# Altium footprint library VESA-ESP_PCB_LIB.PcbLib: 17 footprints (part 1 of 2)
Each footprint in its own frame and in the unit in brackets; x right, y up, seen from the top. Pads: shape width x height; smd on the part's side, far side on the other; paste and mask are expansions set on the pad; w line width, h text height; cw(c..) or ccw(c..) is an arc to the next point about the centre after c.
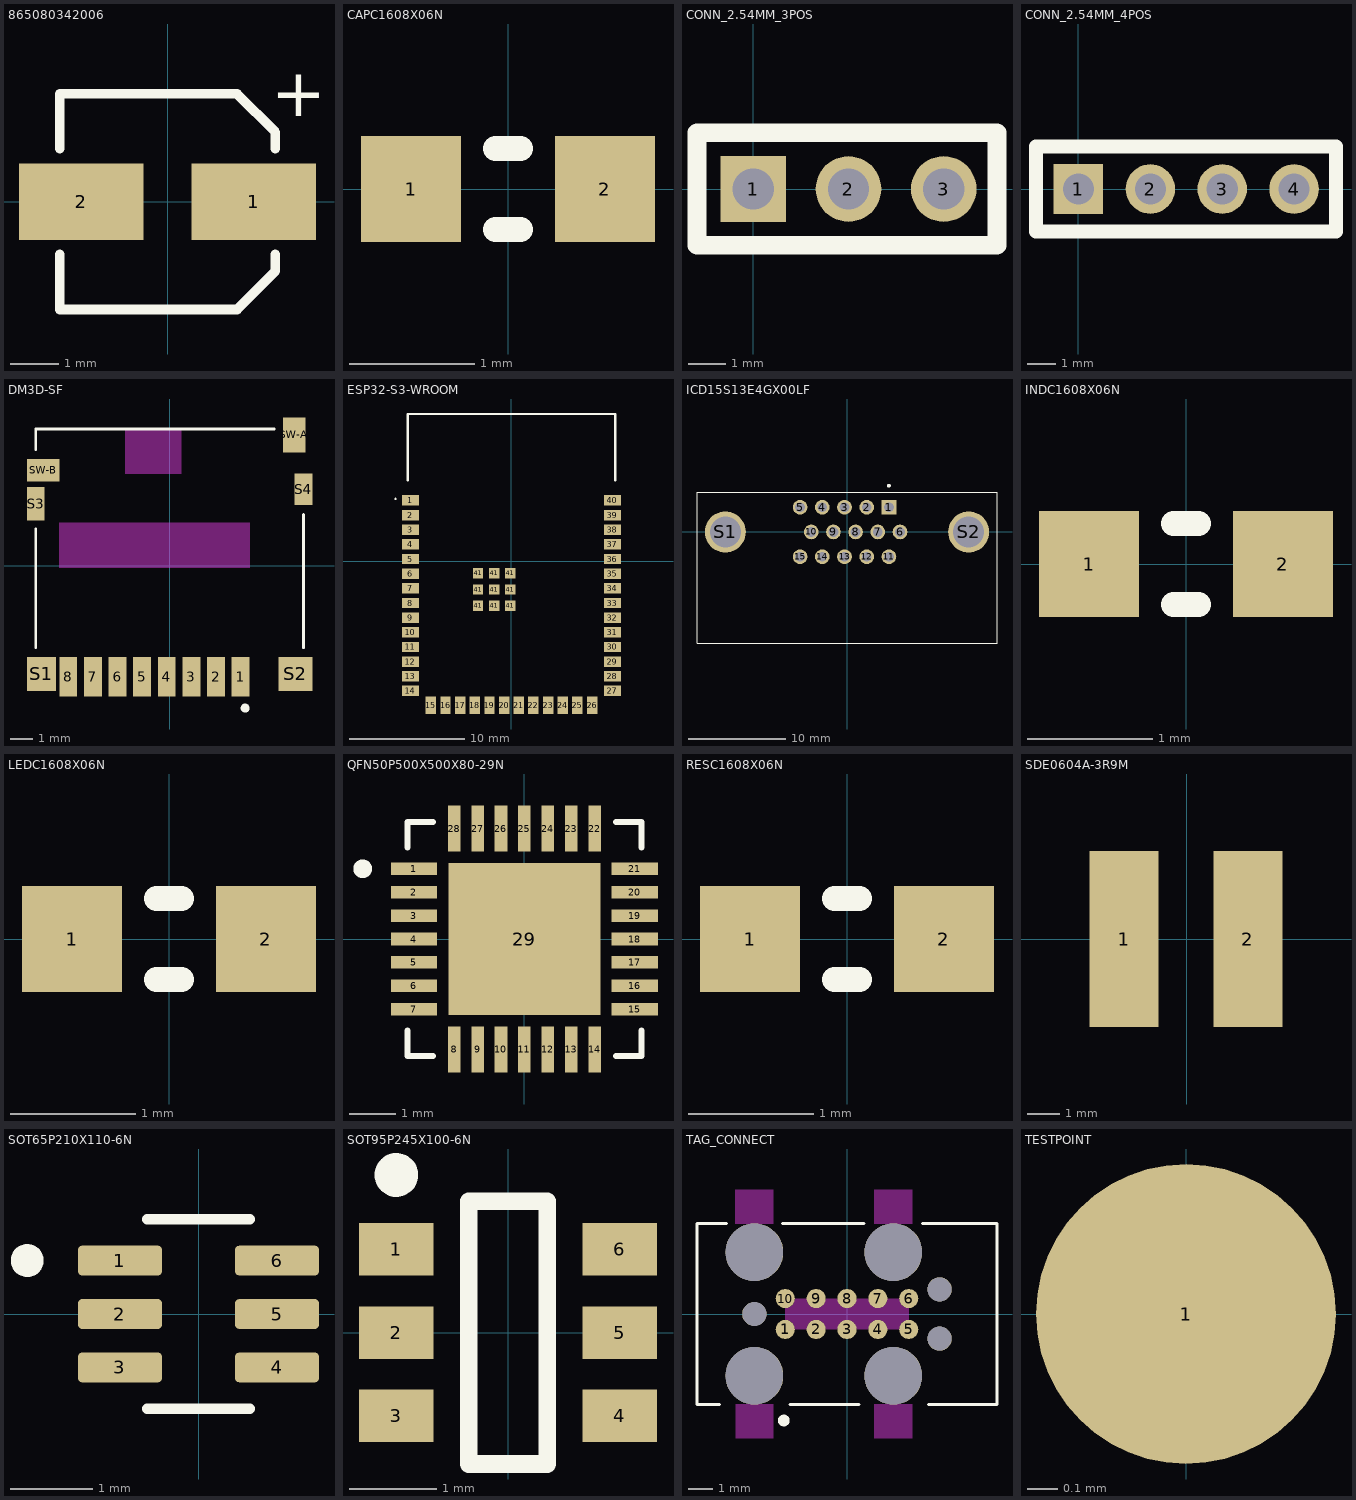
[diagram p0: the footprints below, top view; thin cyan lines are the x and y axes]

## 865080342006 [mm]
pads (2):
  rect 2.6x1.6 smd: 1(1.8,0) 2(-1.8,0)
Top Overlay:
  lines w0.2: -2.25,-1.1 -2.25,-2.25 1.45,-2.25 2.25,-1.45 2.25,-1.1 ; -2.25,1.1 -2.25,2.25 1.45,2.25 2.25,1.45 2.25,1.1
  text "+" at 2.159,1.778 h1
3D body "4x5.5x1.stp": height 5.5, standoff 0, extent -2.5,-2.15 2.5,2.15

## CAPC1608X06N [mm] "Chip Capacitor, 2-Leads, Body 1.60x0.80mm, IPC Medium Density"
height 0.6
pads (2):
  rect 0.8x0.85 smd: 1(-0.775,0) 2(0.775,0)
Top Overlay:
  lines w0.2: -0.1,-0.325 0.1,-0.325 ; -0.1,0.325 0.1,0.325
3D body: height 0.6, standoff 0, extent -0.4,-0.4 0.4,0.4
3D body: height 0.6, standoff 0, extent -0.8,-0.4 -0.4,0.4
3D body: height 0.6, standoff 0, extent 0.4,-0.4 0.8,0.4

## CONN_2.54MM_3POS [mm]
height 0.6
pads (3):
  rect 1.75x1.75 hole 1.1: 1(0,0)
  round 1.75 hole 1.1: 2(2.54,0) 3(5.08,0)
Top Overlay:
  lines w0.5: -1.5,-1.5 -1.5,1.5 6.5,1.5 6.5,-1.5 -1.5,-1.5

## CONN_2.54MM_4POS [mm]
height 0.6
pads (4):
  rect 1.75x1.75 hole 1.1: 1(0,0)
  round 1.75 hole 1.1: 2(2.54,0) 3(5.08,0) 4(7.62,0)
Top Overlay:
  lines w0.5: -1.5,-1.5 -1.5,1.5 9.1,1.5 9.1,-1.5 -1.5,-1.5

## DM3D-SF [mm]
pads (14):
  rect 0.8x1.75 smd: 1(3.173,-4.953) 2(2.073,-4.953) 3(0.973,-4.953) 4(-0.127,-4.953) 5(-1.227,-4.953) 6(-2.327,-4.953) 7(-3.427,-4.953) 8(-4.527,-4.953)
  rect 1.3x1.5 smd: S1(-5.727,-4.828)
  rect 1.5x1.5 smd: S2(5.623,-4.828)
  rect 0.8x1.5 smd: S3(-5.977,2.772)
  rect 0.8x1.4 smd: S4(5.973,3.422)
  rect 1x1.55 smd: SW-A(5.573,5.847)
  rect 1.45x1 smd: SW-B(-5.652,4.272)
Top Overlay:
  circle w0.2: c3.373,-6.353 r0.1
  lines w0.127: -5.977,-3.653 -5.977,1.647 ; -5.977,5.197 -5.977,6.122 4.673,6.122 ; 5.973,-3.653 5.973,2.297
Keep-Out Layer:
  region: 0.523,4.122 -1.977,4.122 -1.977,6.122 0.523,6.122
  region: 3.573,-0.078 -4.927,-0.078 -4.927,1.922 3.573,1.922
3D body "DM3D-SF.step": height 1.56, standoff 0.01, extent -5.975,-5.344 5.975,6.106

## ESP32-S3-WROOM [mm]
pads (49):
  rect 1.5x0.9 smd: 1(-8.75,5.26) 2(-8.75,3.99) 3(-8.75,2.72) 4(-8.75,1.45) 5(-8.75,0.18) 6(-8.75,-1.09) 7(-8.75,-2.36) 8(-8.75,-3.63) 9(-8.75,-4.9) 10(-8.75,-6.17) 11(-8.75,-7.44) 12(-8.75,-8.71) 13(-8.75,-9.98) 14(-8.75,-11.25) 27(8.75,-11.25) 28(8.75,-9.98) 29(8.75,-8.71) 30(8.75,-7.44) 31(8.75,-6.17) 32(8.75,-4.9) 33(8.75,-3.63) 34(8.75,-2.36) 35(8.75,-1.09) 36(8.75,0.18) 37(8.75,1.45) 38(8.75,2.72) 39(8.75,3.99) 40(8.75,5.26)
  rect 0.9x1.5 smd: 15(-6.985,-12.5) 16(-5.715,-12.5) 17(-4.445,-12.5) 18(-3.175,-12.5) 19(-1.905,-12.5) 20(-0.635,-12.5) 21(0.635,-12.5) 22(1.905,-12.5) 23(3.175,-12.5) 24(4.445,-12.5) 25(5.715,-12.5) 26(6.985,-12.5)
  rect 0.9x0.9 smd: 41(-2.9,-3.86) 41(-2.9,-2.46) 41(-2.9,-1.06) 41(-1.5,-3.86) 41(-1.5,-2.46) 41(-1.5,-1.06) 41(-0.1,-3.86) 41(-0.1,-2.46) 41(-0.1,-1.06)
Top Overlay:
  lines w0.1: -10.1,5.4 cw(c-10.05,5.4) -10,5.4 cw(c-10.05,5.4) -10.1,5.4
  lines w0.2: -9,7 -9,12.75 9,12.75 9,7
3D body "step_temp.STEP": height 3.25, standoff 0, extent -9,-12.75 9,12.75

## ICD15S13E4GX00LF [mm]
pads (17):
  rect 1.508x1.508 hole 1: 1(4.305,2.54)
  round 1.508 hole 1: 2(2.025,2.54) 3(-0.255,2.54) 4(-2.535,2.54) 5(-4.815,2.54) 6(5.445,0) 7(3.165,0) 8(0.885,0) 9(-1.395,0) 10(-3.675,0) 11(4.305,-2.54) 12(2.025,-2.54) 13(-0.255,-2.54) 14(-2.535,-2.54) 15(-4.815,-2.54)
  round 4.216 hole 3.2: S1(-12.495,0) S2(12.495,0)
Top Overlay:
  circle w0.2: c4.305,4.75 r0.1
  lines w0.127: -15.405,-11.43 -15.405,4.1 15.405,4.1 15.405,-11.43 -15.405,-11.43
3D body "step_temp.STEP": height 12.55, standoff -3.2, extent -15.505,-17.53 15.495,4.05

## INDC1608X06N [mm] "Chip Inductor, 2-Leads, Body 1.60x0.80mm, IPC Medium Density"
height 0.6
pads (2):
  rect 0.8x0.85 smd: 1(-0.775,0) 2(0.775,0)
Top Overlay:
  lines w0.2: -0.1,-0.325 0.1,-0.325 ; -0.1,0.325 0.1,0.325
3D body: height 0.6, standoff 0, extent -0.4,-0.4 0.4,0.4
3D body: height 0.6, standoff 0, extent -0.8,-0.4 -0.4,0.4
3D body: height 0.6, standoff 0, extent 0.4,-0.4 0.8,0.4

## LEDC1608X06N [mm] "Chip LED, 2-Leads, Body 1.60x0.80mm, IPC Medium Density"
height 0.6
pads (2):
  rect 0.8x0.85 smd: 1(-0.775,0) 2(0.775,0)
Top Overlay:
  lines w0.2: -0.1,-0.325 0.1,-0.325 ; -0.1,0.325 0.1,0.325
3D body "QBLP601_MONO(V2).step": height 0.6, standoff 0, extent -0.8,-0.4 0.8,0.4

## QFN50P500X500X80-29N [mm]
pads (29):
  rect 0.99x0.27 smd mask+0.035: 1(-2.36,1.5) 2(-2.36,1) 3(-2.36,0.5) 4(-2.36,0) 5(-2.36,-0.5) 6(-2.36,-1) 7(-2.36,-1.5) 15(2.36,-1.5) 16(2.36,-1) 17(2.36,-0.5) 18(2.36,0) 19(2.36,0.5) 20(2.36,1) 21(2.36,1.5)
  rect 0.27x0.99 smd mask+0.035: 8(-1.5,-2.36) 9(-1,-2.36) 10(-0.5,-2.36) 11(0,-2.36) 12(0.5,-2.36) 13(1,-2.36) 14(1.5,-2.36) 22(1.5,2.36) 23(1,2.36) 24(0.5,2.36) 25(0,2.36) 26(-0.5,2.36) 27(-1,2.36) 28(-1.5,2.36)
  rect 3.25x3.25 smd paste-0.597 mask+0.04: 29(0,0)
Top Overlay:
  circle w0.2: c-3.455,1.5 r0.1
  lines w0.127: -2.5,-1.955 -2.5,-2.5 -1.955,-2.5 ; -2.5,1.955 -2.5,2.5 -1.955,2.5 ; 1.955,-2.5 2.5,-2.5 2.5,-1.955 ; 1.955,2.5 2.5,2.5 2.5,1.955
3D body "step_temp.STEP": height 0.81, standoff 0.01, extent -2.5,-2.5 2.5,2.5

## RESC1608X06N [mm] "Chip Resistor, 2-Leads, Body 1.60x0.80mm, IPC Medium Density"
height 0.6
pads (2):
  rect 0.8x0.85 smd: 1(-0.775,0) 2(0.775,0)
Top Overlay:
  lines w0.2: -0.1,-0.325 0.1,-0.325 ; -0.1,0.325 0.1,0.325
3D body: height 0.6, standoff 0, extent 0.4,-0.4 0.8,0.4
3D body: height 0.6, standoff 0, extent -0.8,-0.4 -0.4,0.4
3D body: height 0.6, standoff 0, extent -0.4,-0.4 0.4,0.4

## SDE0604A-3R9M [mm]
height 0.32
pads (2):
  rect 2.15x5.5 smd: 1(-1.945,0) 2(1.905,0)
3D body "SDE0604A.STP": height 4.52, standoff 0.01, extent -2.804,-2.61 2.775,2.594

## SOT65P210X110-6N [mm]
pads (6):
  rrect25% 1.02x0.36 smd: 1(-0.955,0.65) 2(-0.955,0) 3(-0.955,-0.65) 4(0.955,-0.65) 5(0.955,0) 6(0.955,0.65)
Top Overlay:
  circle w0.2: c-2.083,0.65 r0.1
  lines w0.127: -0.625,-1.15 0.625,-1.15 ; -0.625,1.15 0.625,1.15
3D body "step_temp.STEP": height 1.1, standoff 0, extent -1.05,-1 1.05,1

## SOT95P245X100-6N [mm] "SOT23, 6-Leads, Body 2.90x2.45mm, Pitch 0.95mm, IPC Medium Density"
height 1
pads (6):
  rect 0.85x0.6 smd: 1(-1.275,0.95) 2(-1.275,0) 3(-1.275,-0.95) 4(1.275,-0.95) 5(1.275,0) 6(1.275,0.95)
Top Overlay:
  circle w0.25: c-1.275,1.8 r0.125
  lines w0.2: -0.45,-1.5 0.45,-1.5 0.45,1.5 -0.45,1.5 -0.45,-1.5
3D body "AP63203WU-7.step": height 1, standoff 0, extent -1.45,-1.45 1.45,1.45

## TAG_CONNECT [mil]
pads (17):
  round 31 smd paste-39.37: 1(-100,-25) 2(-50,-25) 3(0,-25) 4(50,-25) 5(100,-25) 6(100,25) 7(50,25) 8(0,25) 9(-50,25) 10(-100,25)
  round 93.5 hole 93.5 unplated: ""(-150,-100) ""(-150,100) ""(75,-100) ""(75,100)
  round 39 hole 39 unplated: ""(-150,0) ""(150,-39.96) ""(150,39.96)
Top Overlay:
  circle w9.45: c-102.36,-172.49 r4.72
  lines w5: -206.69,-146.77 -242.91,-146.77 -242.91,146.77 -194.88,146.77 ; -104.33,146.77 27.56,146.77 ; -92.52,-146.77 19.68,-146.77 ; 122.05,146.77 242.91,146.77 242.91,-146.77 131.89,-146.77
Keep-Out Layer:
  drawing of 21 lines, arcs and shapes, not listed

## TESTPOINT [mm] "TESTPOINT"
height 0.6
pads (1):
  round 1 smd: 1(0,0)